# EAGLE library part 7508110331 (library WE-OLTI)
WE-OLTI Offline Flyback Transformers Characteristics Nominal input voltage: 85–265 VAC (120–375 VDC) Small size Low leakage inductance Multiple-output options Operating temperature: −40 °C to +125 °C Isolation Voltage: 2 kVAC to 5 kVAC Options for fixed frequency or quasi-resonant mode operation Most products meet reinforced insulation Applications Industrial controls USB chargers Utility metering devices Process controls Factory automation Security systems Garage door opener auxiliary supplies Home appliances Especially designed for several ICs from Texas Instruments <https://www.we-online.com/components/media/o814034v209%20UtOLTI%20Group%20CGI.jpg> Details see: www.we-online.com/en/components/products/WE-OLTI <www.we-online.com/catalog/WE-OLTI/?utm_source=eagle_model&utm_medium=description_link&utm_campaign=eisos_eagle> Created by Ella Wu 2025-02-06 2025 (C) Wurth Elektronik
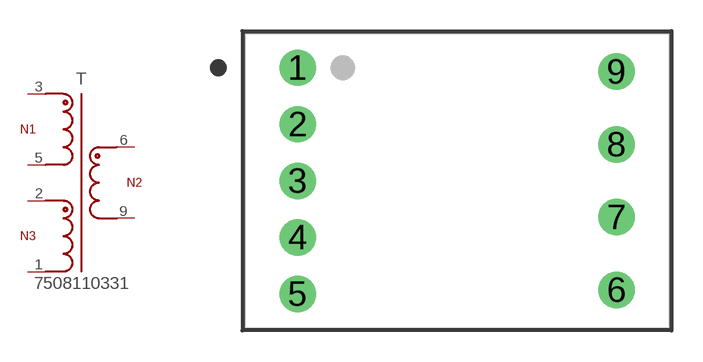
[diagram p20: symbol with the pads of WE-OLTI_EE13/7/4_L13.72W20.45H10.54; footprint WE-OLTI_EE13/7/4_L13.72W20.45H10.54]

Designator prefix T

## 7508110331 (DATASHEET-URL: https://www.we-online.com/redexpert/spec/7508110331?ae; FSWITCH: 130kHz; HEIGHT: 10.54mm; IOUT1: 250mA; ISAT: 0.5A; L: 500uH; LENGTH: 13.72mm; MOUNT: THT; N: 3.25:1:1; PART-NUMBER: 7508110331; SIZE: EE13/7/4; VALUE: 500uH; VAUX: 15V; VIN: 85 - 265 V (AC); VOUT1: 15V; VT: 3000V(AC); WIDTH: 20.45mm)  [WE-OLTI_EE13/7/4_L13.72W20.45H10.54]
1  1  pas
2  2  pas
3  3  pas
5  5  pas
6  6  pas
9  9  pas

## Footprint WE-OLTI_EE13/7/4_L13.72W20.45H10.54 (pad centres in mm)
WE-OLTI Offline Flyback Transformers Size: EE13/7/4,THT,9pins LXWXH=13.72X20.45X10.54mm Bobbin: 070-5662
drill 1.17: 1 -7.675,5.44; 2 -7.675,2.72; 3 -7.675,0; 4 -7.675,-2.72; 5 -7.675,-5.44; 6 7.675,-5.25; 7 7.675,-1.75; 8 7.675,1.75; 9 7.675,5.25